# EAGLE library part AT90PWM2 (library m_misc)
AT90PWM2 Specially designed for lamp ballast and Motor Control applications, the AT90PWM2 AVR microcontroller features 8 KBytes Flash memory, 7-channel advanced PWM, 8-channel 8-bit ADC, two or three 12-bit High Speed PSC (Power Stage Controllers) with 4-bit resolution enhancement and DALI protocol support.
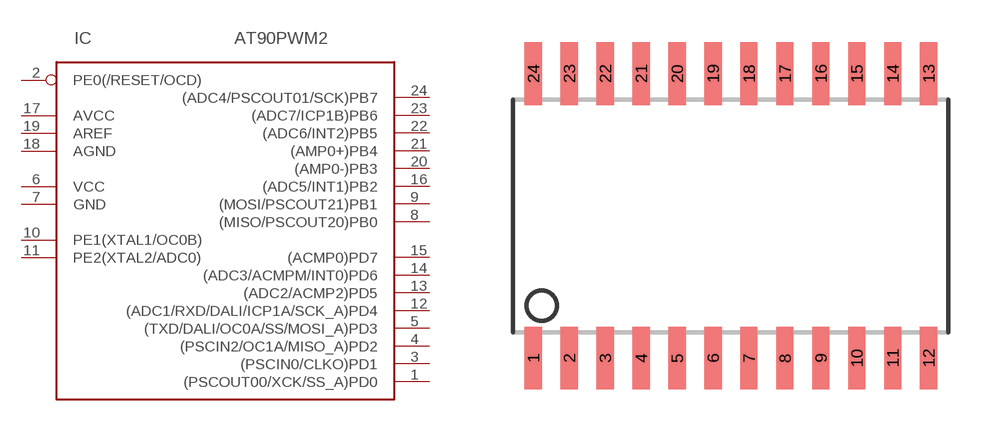
[diagram p11: symbol with the pads of SO24L; footprint SO24L]

Designator prefix IC

## AT90PWM2  [SO24L]
1  (PSCOUT00/XCK/SS_A)PD0
2  PE0(/RESET/OCD)
3  (PSCIN0/CLKO)PD1
4  (PSCIN2/OC1A/MISO_A)PD2
5  (TXD/DALI/OC0A/SS/MOSI_A)PD3
6  VCC
7  GND
8  (MISO/PSCOUT20)PB0
9  (MOSI/PSCOUT21)PB1
10  PE1(XTAL1/OC0B)
11  PE2(XTAL2/ADC0)
12  (ADC1/RXD/DALI/ICP1A/SCK_A)PD4
13  (ADC2/ACMP2)PD5
14  (ADC3/ACMPM/INT0)PD6
15  (ACMP0)PD7
16  (ADC5/INT1)PB2
17  AVCC
18  AGND
19  AREF
20  (AMP0-)PB3
21  (AMP0+)PB4
22  (ADC6/INT2)PB5
23  (ADC7/ICP1B)PB6
24  (ADC4/PSCOUT01/SCK)PB7

## Footprint SO24L (pad centres in mm)
Small Outline Package, large
smd 0.61 x 2.21: 1 -6.985,-5.029; 2 -5.715,-5.029; 3 -4.445,-5.029; 4 -3.175,-5.029; 5 -1.905,-5.029; 6 -0.635,-5.029; 7 0.635,-5.029; 8 1.905,-5.029; 9 3.175,-5.029; 10 4.445,-5.029; 11 5.715,-5.029; 12 6.985,-5.029; 13 6.985,5.029; 14 5.715,5.029; 15 4.445,5.029; 16 3.175,5.029; 17 1.905,5.029; 18 0.635,5.029; 19 -0.635,5.029; 20 -1.905,5.029; 21 -3.175,5.029; 22 -4.445,5.029; 23 -5.715,5.029; 24 -6.985,5.029